# EAGLE library part VT9 (library belton-engineering)
VACUUM TUBE SOCKET Source: 00004280-VT9-PT.pdf
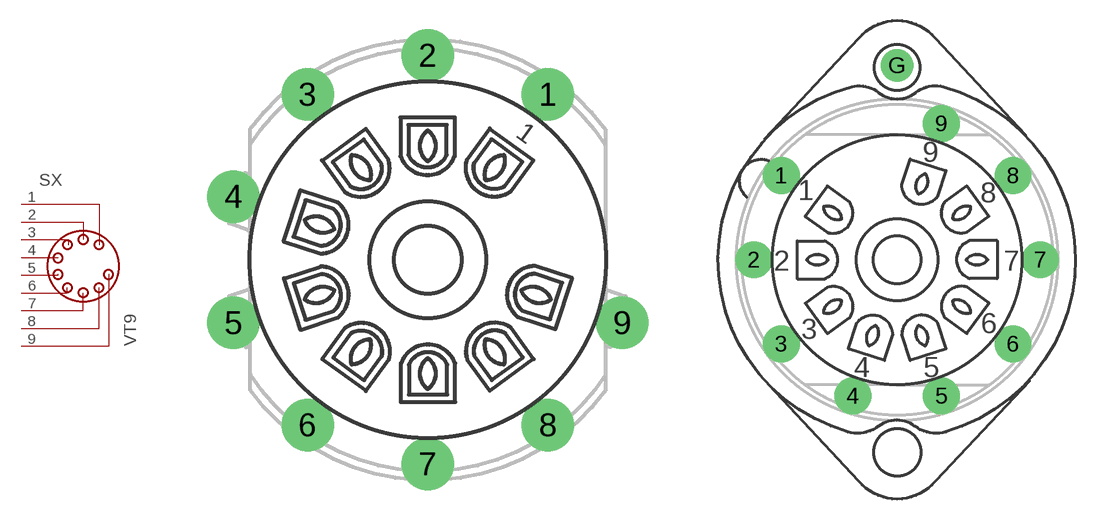
[diagram p0: symbol with the pads of VT9-PT; footprints VT9-PT, VT9-PT-C]

Designator prefix SX

## VT9-PT  [VT9-PT]
1  1  pas
2  2  pas
3  3  pas
4  4  pas
5  5  pas
6  6  pas
7  7  pas
8  8  pas
9  9  pas

## VT9-PT-C  [VT9-PT-C]
Pads as for VT9-PT

## Footprint VT9-PT (pad centres in mm)
VACUUM TUBE SOCKET Source: 00004280-VT9-PT.pdf
drill 1.8 pad 2.4: 1 6.172,8.495; 2 0,10.5; 3 -6.172,8.495; 4 -9.986,3.245; 5 -9.986,-3.245; 6 -6.172,-8.495; 7 0,-10.5; 8 6.172,-8.495; 9 9.986,-3.244

## Footprint VT9-PT-C (pad centres in mm)
VACUUM TUBE SOCKET Source: 00004280-VT9-PT.pdf
drill 1.8 pad 2.4: 1 -8.495,6.172; 2 -10.5,0; 3 -8.495,-6.172; 4 -3.245,-9.986; 5 3.245,-9.986; 6 8.495,-6.172; 7 10.5,0; 8 8.495,6.172; 9 3.244,9.986
drill 1.3 pad 2.4: G 0,14.25